# EAGLE library part PGA44 (library PGA44DIP44)
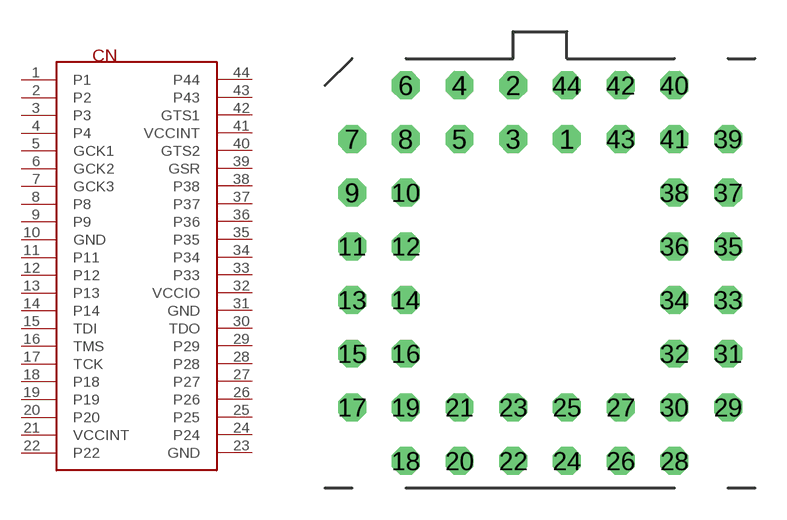
[diagram p1: symbol with the pads of PGA44; footprint PGA44]

Designator prefix CN

## PGA44  [PGA44]
1  P1
2  P2
3  P3
4  P4
5  GCK1
6  GCK2
7  GCK3
8  P8
9  P9
10  GND
11  P11
12  P12
13  P13
14  P14
15  TDI
16  TMS
17  TCK
18  P18
19  P19
20  P20
21  VCCINT
22  P22
23  GND
24  P24
25  P25
26  P26
27  P27
28  P28
29  P29
30  TDO
31  GND
32  VCCIO
33  P33
34  P34
35  P35
36  P36
37  P37
38  P38
39  GSR
40  GTS2
41  VCCINT
42  GTS1
43  P43
44  P44

## Footprint PGA44 (pad centres in mm)
Pin Grid Array
drill 0.813 octagon: 1 1.27,6.35; 2 -1.27,8.89; 3 -1.27,6.35; 4 -3.81,8.89; 5 -3.81,6.35; 6 -6.35,8.89; 7 -8.89,6.35; 8 -6.35,6.35; 9 -8.89,3.81; 10 -6.35,3.81; 11 -8.89,1.27; 12 -6.35,1.27; 13 -8.89,-1.27; 14 -6.35,-1.27; 15 -8.89,-3.81; 16 -6.35,-3.81; 17 -8.89,-6.35; 18 -6.35,-8.89; 19 -6.35,-6.35; 20 -3.81,-8.89; 21 -3.81,-6.35; 22 -1.27,-8.89; 23 -1.27,-6.35; 24 1.27,-8.89; 25 1.27,-6.35; 26 3.81,-8.89; 27 3.81,-6.35; 28 6.35,-8.89; 29 8.89,-6.35; 30 6.35,-6.35; 31 8.89,-3.81; 32 6.35,-3.81; 33 8.89,-1.27; 34 6.35,-1.27; 35 8.89,1.27; 36 6.35,1.27; 37 8.89,3.81; 38 6.35,3.81; 39 8.89,6.35; 40 6.35,8.89; 41 6.35,6.35; 42 3.81,8.89; 43 3.81,6.35; 44 1.27,8.89